# EAGLE library part TPS562202 (library Harrington-ICs v130)
DC-DC Buck Converter Texas Instruments - Input Voltage: 4.3-17V - Output Voltage: 0.804-7V - Max Current: 2A
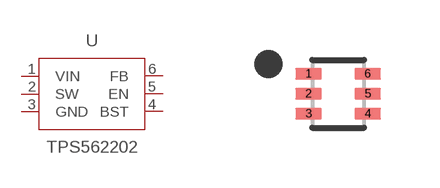
[diagram p13: symbol with the pads of SOT563; footprint SOT563]

Designator prefix U

## TPS562202  [SOT563]
1  VIN  pwr
2  SW  out
3  GND  pwr
4  BST  out
5  EN  in
6  FB  in

## Footprint SOT563 (pad centres in mm)
smd 0.67 x 0.3: 1 -0.74,0.5; 2 -0.74,0; 3 -0.74,-0.5; 4 0.74,-0.5; 5 0.74,0; 6 0.74,0.5